# Altium footprint library ES_Pcb.PcbLib: 383 footprints (part 15 of 24)
Each footprint in its own frame and in the unit in brackets; x right, y up, seen from the top. Pads: shape width x height; smd on the part's side, far side on the other; paste and mask are expansions set on the pad; w line width, h text height; cw(c..) or ccw(c..) is an arc to the next point about the centre after c.
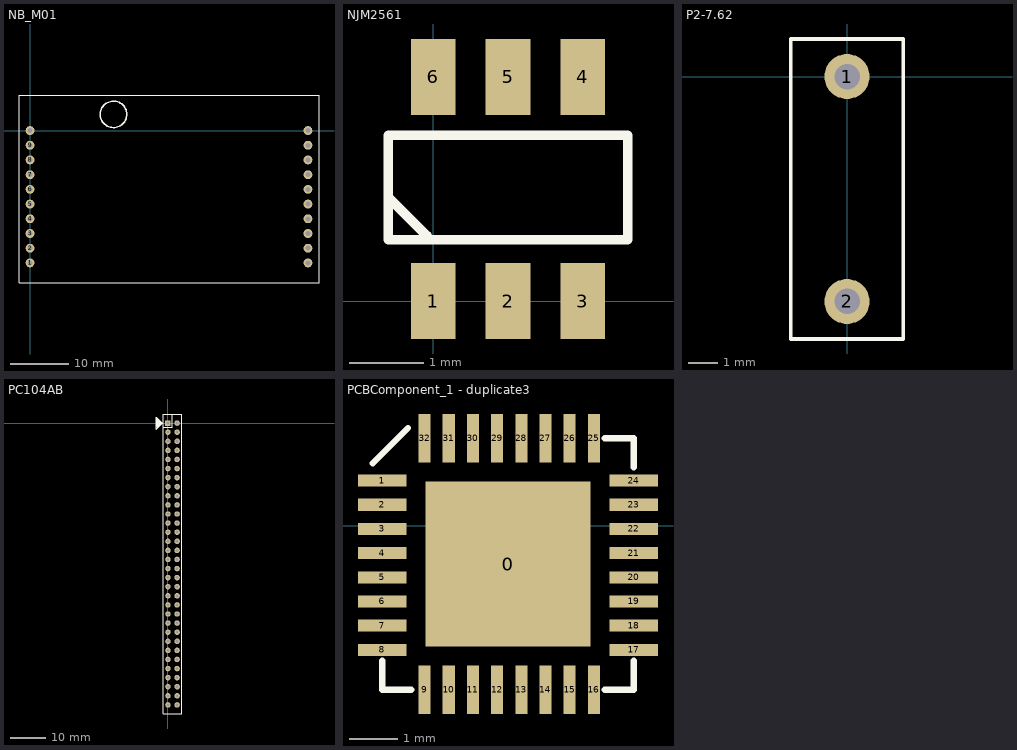
[diagram p14: the footprints below, top view; thin cyan lines are the x and y axes]

## NB_M01 [mil]
pads (20):
  round 60 hole 34: 1(0,-900) 2(0,-800) 3(0,-700) 4(0,-600) 5(0,-500) 6(0,-400) 7(0,-300) 8(0,-200) 9(0,-100) 10(0,0) 11(1890,-900) 12(1890,-800) 13(1890,-700) 14(1890,-600) 15(1890,-500) 16(1890,-400) 17(1890,-300) 18(1890,-200) 19(1890,-100) 20(1890,0)
Top Overlay:
  circle w10: c567.79,110 r90.21
  lines w5: -75,-1035 1965,-1035 1965,240 -75,240 -75,-1035

## NJM2561 [mm]
pads (6):
  rect 0.6x1.016 smd: 1(0,0) 2(1,0) 3(2,0) 4(2,3) 5(1,3) 6(0,3)
Top Overlay:
  lines w0.127: -0.584,1.372 -0.084,0.871 ; -0.6,0.822 -0.6,2.219 2.6,2.219 2.6,0.822 -0.6,0.822

## P2-7.62 [mil]
pads (2):
  round 60 hole 34: 1(0,0) 2(0,-300)
Top Overlay:
  lines w5: -75,-350 75,-350 75,50 -75,50 -75,-350

## PC104AB [mil]
pads (64):
  rect 60x60 hole 34: 1(0,0)
  round 60 hole 34: 2(100,0) 3(0,-100) 4(100,-100) 5(0,-200) 6(100,-200) 7(0,-300) 8(100,-300) 9(0,-400) 10(100,-400) 11(0,-500) 12(100,-500) 13(0,-600) 14(100,-600) 15(0,-700) 16(100,-700) 17(0,-800) 18(100,-800) 19(0,-900) 20(100,-900) 21(0,-1000) 22(100,-1000) 23(0,-1100) 24(100,-1100) 25(0,-1200) 26(100,-1200) 27(0,-1300) 28(100,-1300) 29(0,-1400) 30(100,-1400) 31(0,-1500) 32(100,-1500) 33(0,-1600) 34(100,-1600) 35(0,-1700) 36(100,-1700) 37(0,-1800) 38(100,-1800) 39(0,-1900) 40(100,-1900) 41(0,-2000) 42(100,-2000) 43(0,-2100) 44(100,-2100) 45(0,-2200) 46(100,-2200) 47(0,-2300) 48(100,-2300) 49(0,-2400) 50(100,-2400) 51(0,-2500) 52(100,-2500) 53(0,-2600) 54(100,-2600) 55(0,-2700) 56(100,-2700) 57(0,-2800) 58(100,-2800) 59(0,-2900) 60(100,-2900) 61(0,-3000) 62(100,-3000) 63(0,-3100) 64(100,-3100)
Top Overlay:
  lines w10: -127.36,-43.64 -118.14,-52.86 ; -127.36,-33.64 -113.94,-47.06 ; -127.36,-21.64 -109.94,-39.06 ; -127.36,-10.64 -102.36,-35.64 ; -127.36,2.36 -97.94,-27.06 ; -127.36,14.36 -89.94,-23.06 ; -127.36,26.36 -82.94,-18.06 ; -127.36,37.36 -77.94,-12.06 ; -127.36,50.36 -72.94,-4.06 ; -50,-48 49,-48 49,100 ; -127.36,-65.06 -63.36,-1.06 -127.36,62.94 -127.36,-65.06 ; -50,-3200 -50,100 150,100 150,-3200 -50,-3200

## PCBComponent_1 [mm]

## PCBComponent_1 - duplicate [mm]

## PCBComponent_1 - duplicate1 [mm]

## PCBComponent_1 - duplicate2 [mm]

## PCBComponent_1 - duplicate3 [mm]
pads (33):
  rect 3.4x3.4 smd: 0(48.616,-0.787)
  rect 1x0.25 smd: 1(46.016,0.938) 2(46.016,0.438) 3(46.016,-0.062) 4(46.016,-0.562) 5(46.016,-1.062) 6(46.016,-1.562) 7(46.016,-2.062) 8(46.016,-2.562) 17(51.216,-2.562) 18(51.216,-2.062) 19(51.216,-1.562) 20(51.216,-1.062) 21(51.216,-0.562) 22(51.216,-0.062) 23(51.216,0.438) 24(51.216,0.938)
  rect 0.25x1 smd: 9(46.891,-3.387) 10(47.391,-3.387) 11(47.891,-3.387) 12(48.391,-3.387) 13(48.891,-3.387) 14(49.391,-3.387) 15(49.891,-3.387) 16(50.391,-3.387) 25(50.391,1.813) 26(49.891,1.813) 27(49.391,1.813) 28(48.891,1.813) 29(48.391,1.813) 30(47.891,1.813) 31(47.391,1.813) 32(46.891,1.813)
Top Overlay:
  lines w0.127: 45.822,1.295 46.552,2.025 ; 46.016,-2.787 46.016,-3.387 46.616,-3.387 ; 50.616,-3.387 51.216,-3.387 51.216,-2.787 ; 50.616,1.813 51.216,1.813 51.216,1.213

## PCBComponent_1 - duplicate4 [mm]

## PCBComponent_1 - duplicate5 [mm]

## PCBComponent_1 - duplicate6 [mm]

## PCBComponent_1 - duplicate7 [mm]

## PCBComponent_1 - duplicate8 [mm]

## PCBComponent_1 - duplicate9 [mm]

## PCBComponent_1 - duplicate10 [mm]